# Altium footprint library IC_Diodes_AP3418KTR-G1_eec_IPC_A.PcbLib: 1 footprints
Each footprint in its own frame and in the unit in brackets; x right, y up, seen from the top. Pads: shape width x height; smd on the part's side, far side on the other; paste and mask are expansions set on the pad; w line width, h text height; cw(c..) or ccw(c..) is an arc to the next point about the centre after c.
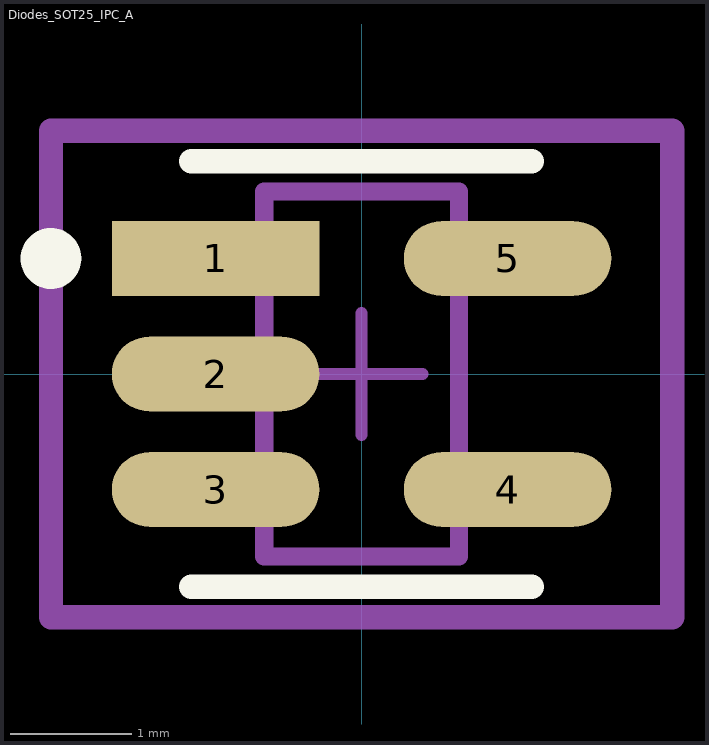
[diagram p0: the footprint, top view; thin cyan lines are the x and y axes]

## Diodes_SOT25_IPC_A [mm]
pads (5):
  rect 1.707x0.616 smd paste+0 mask+0: 1(-1.201,0.95)
  oval 1.707x0.616 smd paste+0 mask+0: 2(-1.201,0) 3(-1.201,-0.95) 4(1.201,-0.95) 5(1.201,0.95)
Top Overlay:
  circle w0.25: c-2.554,0.95 r0.125
  lines w0.2: -1.4,-1.75 1.4,-1.75 ; -1.4,1.75 1.4,1.75
Mechanical 10:
  lines w0.2: -2.554,-2 2.554,-2 2.554,2 -2.554,2 -2.554,-2
  text ".Designator" at 0,0 h1
Mechanical 12:
  lines w0.15: -0.8,-1.5 0.8,-1.5 0.8,1.5 -0.8,1.5 -0.8,-1.5
Mechanical 15:
  lines w0.1: -0.5,0 0.5,0 ; 0,-0.5 0,0.5
  lines w0.2: -2.554,-2 2.554,-2 2.554,2 -2.554,2 -2.554,-2
3D body "IC_Diodes_AP3418KTR-G1_eec.STEP": height 0.25, standoff 0, extent -2.554,-2 2.554,2